# Altium footprint library WDFN-10 (3x3).PcbLib: 1 footprints
Each footprint in its own frame and in the unit in brackets; x right, y up, seen from the top. Pads: shape width x height; smd on the part's side, far side on the other; paste and mask are expansions set on the pad; w line width, h text height; cw(c..) or ccw(c..) is an arc to the next point about the centre after c.
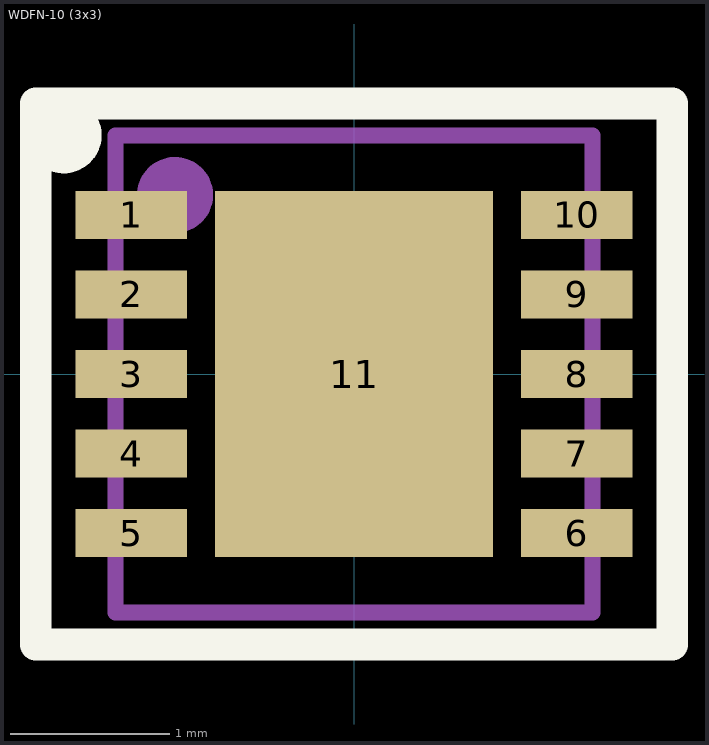
[diagram p0: the footprint, top view; thin cyan lines are the x and y axes]

## WDFN-10 (3x3) [mm]
height 0.8
pads (11):
  rect 0.7x0.3 smd: 1(-1.4,1) 2(-1.4,0.5) 3(-1.4,0) 4(-1.4,-0.5) 5(-1.4,-1) 6(1.4,-1) 7(1.4,-0.5) 8(1.4,0) 9(1.4,0.5) 10(1.4,1)
  rect 1.75x2.3 smd: 11(0,0)
Top Overlay:
  circle w0.254: c-1.825,1.5 r0.112
  lines w0.2: -2,-1.7 -2,1.7 2,1.7 2,-1.7 -2,-1.7
Top Assembly:
  circle w0.254: c-1.125,1.125 r0.112
  lines w0.1: -1.5,-1.5 1.5,-1.5 1.5,1.5 -1.5,1.5 -1.5,-1.5
  text "'.Designator'" at 0,0 h0.7
3D body "RT8299ZQW.stp": height 0.8, standoff 0, extent -1.5,-1.5 1.5,1.5